# Altium footprint library PcbLib1.PcbLib: 21 footprints (part 2 of 2)
Each footprint in its own frame and in the unit in brackets; x right, y up, seen from the top. Pads: shape width x height; smd on the part's side, far side on the other; paste and mask are expansions set on the pad; w line width, h text height; cw(c..) or ccw(c..) is an arc to the next point about the centre after c.
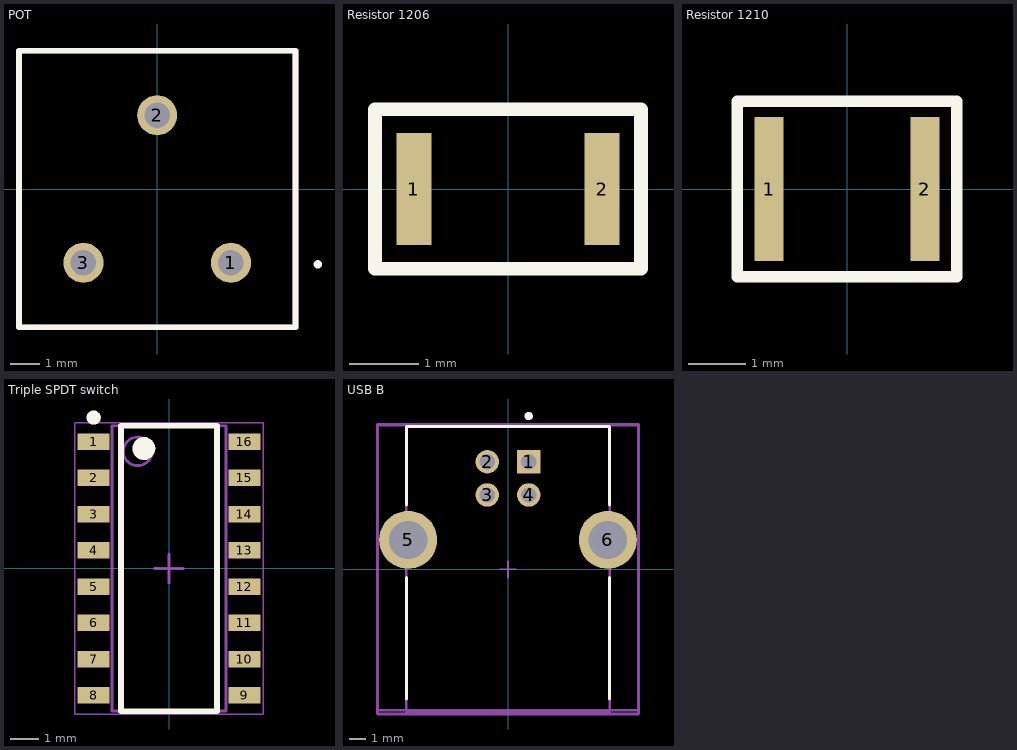
[diagram p1: the footprints below, top view; thin cyan lines are the x and y axes]

## POT [mm]
pads (3):
  round 1.38 hole 0.88: 1(2.54,-2.54) 2(0,2.54) 3(-2.54,-2.54)
Top Overlay:
  circle w0.2: c5.533,-2.594 r0.041
  lines w0.2: -4.76,-4.76 -4.76,4.76 4.76,4.76 4.76,-4.76 -4.76,-4.76
Mechanical 13:
  lines w0.2: -4.76,-4.76 4.76,-4.76 4.76,4.76 -4.76,4.76 -4.76,-4.76

## Resistor 1206 [mm]
pads (2):
  rect 0.5x1.6 smd: 1(-1.35,0) 2(1.35,0)
Top Overlay:
  lines w0.2: -1.905,-1.143 -1.905,1.143 1.905,1.143 1.905,-1.143 -1.905,-1.143

## Resistor 1210 [mm]
pads (2):
  rect 0.5x2.5 smd: 1(-1.35,0) 2(1.35,0)
Top Overlay:
  lines w0.2: -1.905,-1.524 1.905,-1.524 1.905,1.524 -1.905,1.524 -1.905,-1.524

## Triple SPDT switch [mm] "SOIC, 16-Leads, Body 10x4mm, Pitch 1.27mm"
height 1.75
pads (16):
  rect 1.12x0.58 smd: 1(-2.64,4.445) 2(-2.64,3.175) 3(-2.64,1.905) 4(-2.64,0.635) 5(-2.64,-0.635) 6(-2.64,-1.905) 7(-2.64,-3.175) 8(-2.64,-4.445) 9(2.64,-4.445) 10(2.64,-3.175) 11(2.64,-1.905) 12(2.64,-0.635) 13(2.64,0.635) 14(2.64,1.905) 15(2.64,3.175) 16(2.64,4.445)
Top Overlay:
  circle w0.25: c-2.64,5.285 r0.125
  circle w0.4: c-0.88,4.2 r0.2
  lines w0.2: -1.68,-5 -1.68,5 1.68,5 1.68,-5 -1.68,-5
Mechanical 13:
  circle w0.1: c-1.1,4.1 r0.5
  lines w0.1: -2,-5 -2,5 2,5 2,-5 -2,-5
Mechanical 15:
  lines w0.05: -3.3,-5.1 -3.3,5.1 3.3,5.1 3.3,-5.1 -3.3,-5.1
  lines w0.1: -0.5,0 0.5,0 ; 0,-0.5 0,0.5
3D body: height 1.75, standoff 0.1, extent -2,-5 2,5

## USB B [mm]
pads (6):
  rect 1.42x1.42 hole 0.92 paste-1000 mask+0: 1(1.25,6.49)
  round 1.42 hole 0.92 paste-1000 mask+0: 2(-1.25,6.49) 3(-1.25,4.49) 4(1.25,4.49)
  round 3.5 hole 2.3 paste-1000 mask+0: 5(-6.02,1.78) 6(6.02,1.78)
Top Overlay:
  circle w0.25: c1.25,9.25 r0.125
  lines w0.2: -6.125,-7.8 -6.125,-0.5 ; -6.125,3.905 -6.125,8.625 6.125,8.625 6.125,3.905 ; 6.125,-7.8 6.125,-0.5
Mechanical 10:
  lines w0.2: -7.87,-8.725 7.87,-8.725 7.87,8.725 -7.87,8.725 -7.87,-8.725
  text ".Designator" at 0,0 h1
Mechanical 12:
  lines w0.15: -7.87,-8.5 7.87,-8.5 ; -6.125,-8.625 6.125,-8.625 6.125,8.625 -6.125,8.625 -6.125,-8.625
Mechanical 15:
  lines w0.1: -0.5,0 0.5,0 ; 0,-0.5 0,0.5
  lines w0.2: -7.87,-8.725 7.87,-8.725 7.87,8.725 -7.87,8.725 -7.87,-8.725
3D body "Conn_Molex_67068-8000_eec.STEP": height 0.25, standoff 0, extent -7.87,-8.725 7.87,8.725